# Altium footprint library 贴片元器件.PCBLIB: 208 footprints (part 4 of 13)
Each footprint in its own frame and in the unit in brackets; x right, y up, seen from the top. Pads: shape width x height; smd on the part's side, far side on the other; paste and mask are expansions set on the pad; w line width, h text height; cw(c..) or ccw(c..) is an arc to the next point about the centre after c.
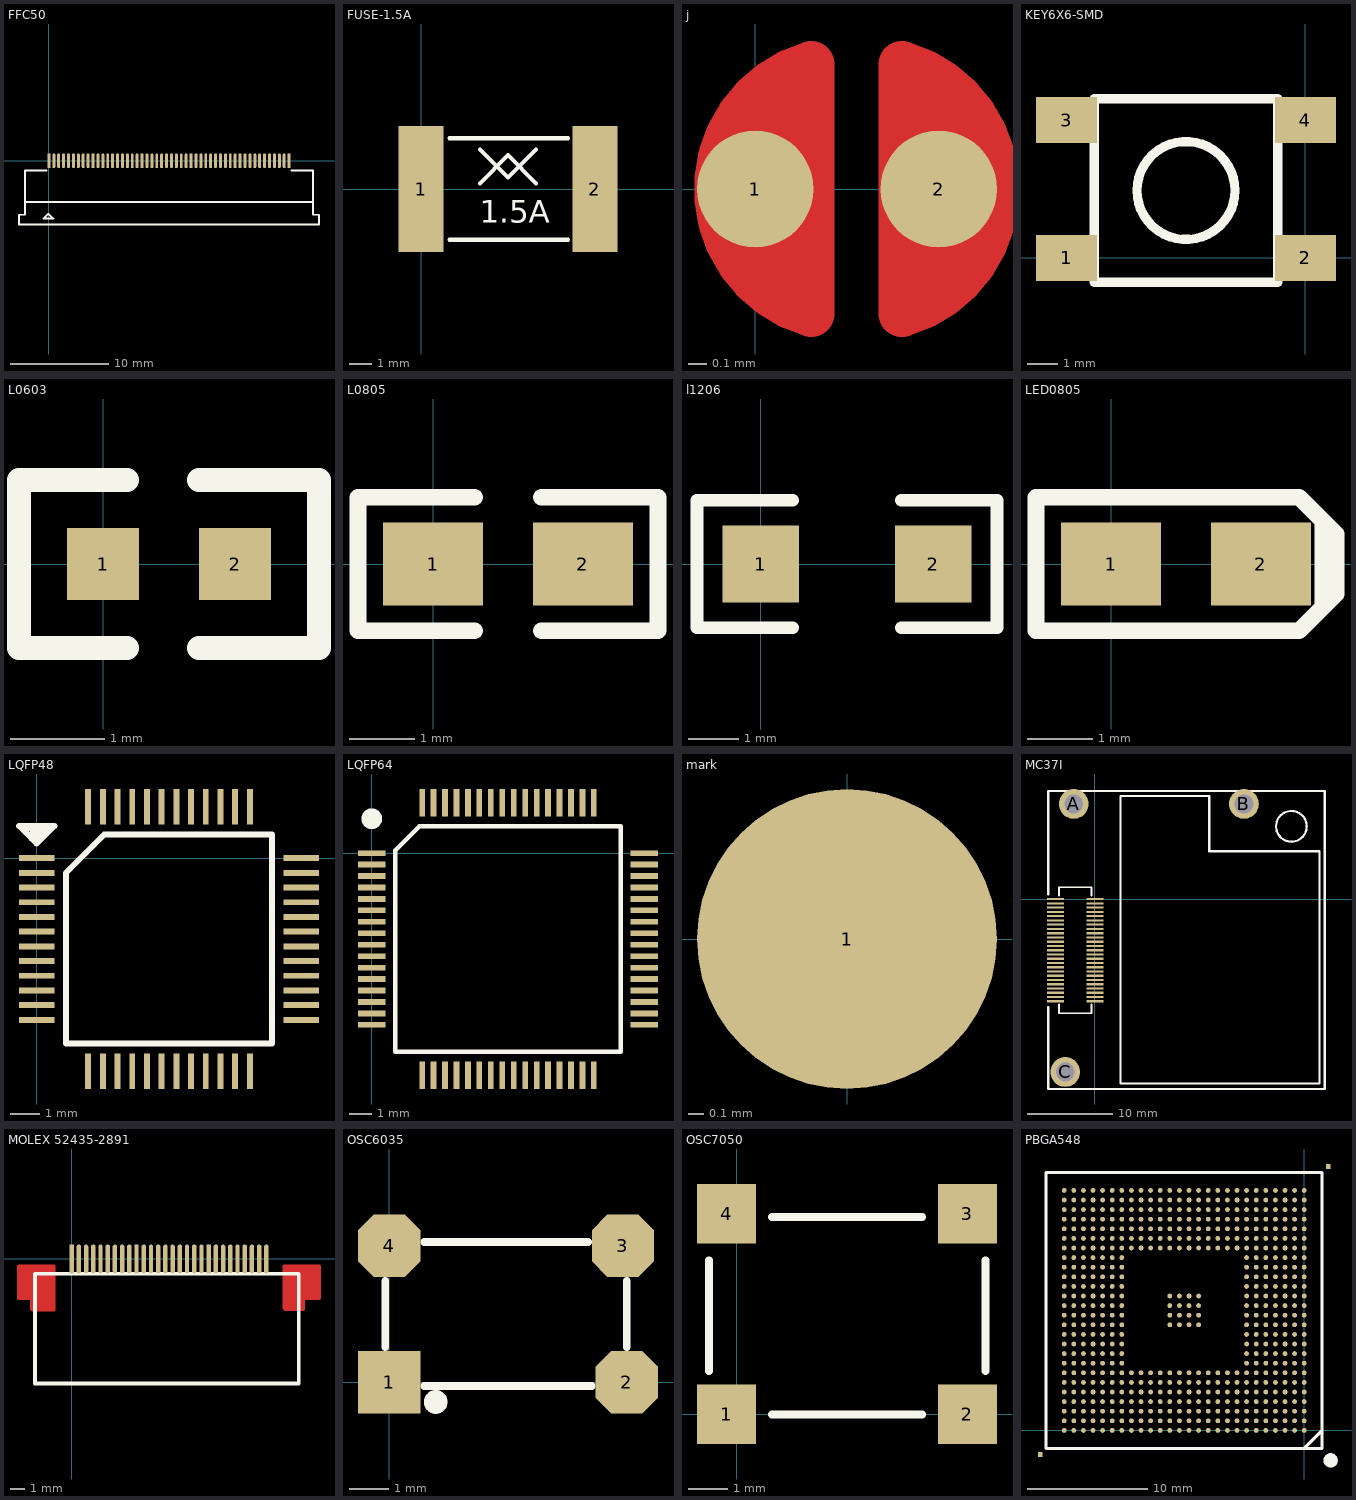
[diagram p3: the footprints below, top view; thin cyan lines are the x and y axes]

## FFC50 [mm]
pads (50):
  rect 0.3x1.5 smd: 1(0,0) 10(4.5,0) 20(9.5,0) 30(14.5,0) 40(19.5,0) 50(24.5,0)
  oval 0.3x1.5 smd: 2(0.5,0) 3(1,0) 4(1.5,0) 5(2,0) 6(2.5,0) 7(3,0) 8(3.5,0) 9(4,0) 11(5,0) 12(5.5,0) 13(6,0) 14(6.5,0) 15(7,0) 16(7.5,0) 17(8,0) 18(8.5,0) 19(9,0) 21(10,0) 22(10.5,0) 23(11,0) 24(11.5,0) 25(12,0) 26(12.5,0) 27(13,0) 28(13.5,0) 29(14,0) 31(15,0) 32(15.5,0) 33(16,0) 34(16.5,0) 35(17,0) 36(17.5,0) 37(18,0) 38(18.5,0) 39(19,0) 41(20,0) 42(20.5,0) 43(21,0) 44(21.5,0) 45(22,0) 46(22.5,0) 47(23,0) 48(23.5,0) 49(24,0)
TopOverlay:
  lines w0.2: -2.45,-4.2 26.95,-4.2 ; -0.25,-1 -2.45,-1 -2.45,-5.5 -3.05,-5.5 -3.05,-6.5 27.55,-6.5 27.55,-5.5 26.95,-5.5 26.95,-1 24.75,-1 ; -0.55,-5.9 0.45,-5.9 -0.05,-5.4 -0.55,-5.9

## FUSE-1.5A [mm]
pads (2):
  rect 2x5.6 smd: 1(0,0) 2(7.7,0)
TopOverlay:
  lines w0.178: 1.25,-2.25 6.5,-2.25 ; 1.25,2.25 6.5,2.25 ; 2.6,0.25 3.85,1.5 5.1,0.25 ; 2.6,1.75 3.85,0.5 5.1,1.75
  text "1.5A" at 2.6,-1.5 h1

## j [mm]
pads (2):
  round 0.635 smd: 1(0,0) 2(1,0)
TopLayer:
  lines w0.254: 0.268,0.416 ccw(c0.487,-0.034) 0.306,-0.5 ; 0.291,-0.215 cw(c0.5,0) 0.291,0.215 ; 0.8,0.5 cw(c0.619,0.034) 0.837,-0.416 ; 0.815,-0.215 ccw(c0.606,0) 0.815,0.215 ; 0.306,-0.68 cw(c0.5,0) 0.306,0.68 0.306,-0.68 ; 0.8,-0.68 ccw(c0.606,0) 0.8,0.68 0.8,-0.68

## KEY6X6-SMD [mm]
pads (4):
  rect 2x1.5 smd: 1(-7.8,0) 2(0,0) 3(-7.8,4.5) 4(0,4.5)
TopOverlay:
  circle w0.305: c-3.9,2.2 r1.6
  lines w0.305: -6.9,-0.8 -0.9,-0.8 -0.9,5.2 -6.9,5.2 -6.9,-0.8

## L0603 [mil]
pads (2):
  rect 30x30 smd: 1(0,0) 2(55,0)
TopOverlay:
  lines w10: 10,-35 -35,-35 -35,35 10,35 ; 40,-35 90,-35 90,35 40,35

## L0805 [mil]
pads (2):
  rect 60x50 smd: 1(0,0) 2(90,0)
TopOverlay:
  lines w10: 25,-40 -45,-40 -45,40 25,40 ; 65,-40 135,-40 135,40 65,40

## l1206 [mil]
pads (2):
  rect 60x60 smd: 1(0,0) 2(135,0)
TopOverlay:
  lines w10: 25,-50 -50,-50 -50,50 25,50 ; 110,-50 185,-50 185,50 110,50

## LED0805 [mil]
pads (2):
  rect 60x50 smd: 1(0,0) 2(90,0)
TopOverlay:
  lines w10: 127.1,-25.9 127.1,25.9 ; -45,-40 113,-40 135,-18 135,18 113,40 -45,40 -45,-40

## LQFP48 [mm]
pads (48):
  rect 1.2x0.2 smd: 1(0,0) 2(0,-0.5) 3(0,-1) 4(0,-1.5) 5(0,-2) 6(0,-2.5) 7(0,-3) 8(0,-3.5) 9(0,-4) 10(0,-4.5) 11(0,-5) 12(0,-5.5) 25(9,-5.5) 26(9,-5) 27(9,-4.5) 28(9,-4) 29(9,-3.5) 30(9,-3) 31(9,-2.5) 32(9,-2) 33(9,-1.5) 34(9,-1) 35(9,-0.5) 36(9,0)
  rect 0.2x1.2 smd: 13(1.75,-7.25) 14(2.25,-7.25) 15(2.75,-7.25) 16(3.25,-7.25) 17(3.75,-7.25) 18(4.25,-7.25) 19(4.75,-7.25) 20(5.25,-7.25) 21(5.75,-7.25) 22(6.25,-7.25) 23(6.75,-7.25) 24(7.25,-7.25) 37(7.25,1.75) 38(6.75,1.75) 39(6.25,1.75) 40(5.75,1.75) 41(5.25,1.75) 42(4.75,1.75) 43(4.25,1.75) 44(3.75,1.75) 45(3.25,1.75) 46(2.75,1.75) 47(2.25,1.75) 48(1.75,1.75)
TopOverlay:
  lines w0.2: 1,-6.3 8,-6.3 8,0.8 2.3,0.8 1,-0.5 1,-6.3
  lines w0.203: -0.4,1 0.5,1 ; -0.199,0.799 0.299,0.799 ; -0.171,0.671 0.171,0.671 ; -0.6,1.1 0,0.5 0.6,1.1 -0.6,1.1

## LQFP64 [mm]
pads (64):
  rect 1.2x0.25 smd: 1(0,0) 2(0,-0.5) 3(0,-1) 4(0,-1.5) 5(0,-2) 6(0,-2.5) 7(0,-3) 8(0,-3.5) 9(0,-4) 10(0,-4.5) 11(0,-5) 12(0,-5.5) 13(0,-6) 14(0,-6.5) 15(0,-7) 16(0,-7.5) 33(11.9,-7.5) 34(11.9,-7) 35(11.9,-6.5) 36(11.9,-6) 37(11.9,-5.5) 38(11.9,-5) 39(11.9,-4.5) 40(11.9,-4) 41(11.9,-3.5) 42(11.9,-3) 43(11.9,-2.5) 44(11.9,-2) 45(11.9,-1.5) 46(11.9,-1) 47(11.9,-0.5) 48(11.9,0)
  rect 0.25x1.2 smd: 17(2.2,-9.7) 18(2.7,-9.7) 19(3.2,-9.7) 20(3.7,-9.7) 21(4.2,-9.7) 22(4.7,-9.7) 23(5.2,-9.7) 24(5.7,-9.7) 25(6.2,-9.7) 26(6.7,-9.7) 27(7.2,-9.7) 28(7.7,-9.7) 29(8.2,-9.7) 30(8.7,-9.7) 31(9.2,-9.7) 32(9.7,-9.7) 49(9.7,2.2) 50(9.2,2.2) 51(8.7,2.2) 52(8.2,2.2) 53(7.7,2.2) 54(7.2,2.2) 55(6.7,2.2) 56(6.2,2.2) 57(5.7,2.2) 58(5.2,2.2) 59(4.7,2.2) 60(4.2,2.2) 61(3.7,2.2) 62(3.2,2.2) 63(2.7,2.2) 64(2.2,2.2)
TopOverlay:
  circle w0.5: c0,1.5 r0.2
  lines w0.2: 1.035,-8.665 1.035,0.13 2.07,1.165 10.865,1.165 10.865,-8.665 1.035,-8.665

## mark [mm]
pads (1):
  round 2 all layers, no hole: 1(0,0)

## MC37I [mm]
pads (54):
  rect 2x0.254 smd: 1(0,0) 2(0,-0.5) 3(0,-1) 4(0,-1.5) 5(0,-2) 6(0,-2.5) 7(0,-3) 8(0,-3.5) 9(0,-4) 10(0,-4.5) 11(0,-5) 12(0,-5.5) 13(0,-6) 14(0,-6.5) 15(0,-7) 16(0,-7.5) 17(0,-8) 18(0,-8.5) 19(0,-9) 20(0,-9.5) 21(0,-10) 22(0,-10.5) 23(0,-11) 24(0,-11.5) 25(0,-12) 26(-4.6,-12) 26(-4.6,-12) 27(-4.6,-11.5) 28(-4.6,-11) 29(-4.6,-10.5) 30(-4.6,-10) 31(-4.6,-9.5) 32(-4.6,-9) 33(-4.6,-8.5) 34(-4.6,-8) 35(-4.6,-7.5) 36(-4.6,-7) 37(-4.6,-6.5) 38(-4.6,-6) 39(-4.6,-5.5) 40(-4.6,-5) 41(-4.6,-4.5) 42(-4.6,-4) 43(-4.6,-3.5) 44(-4.6,-3) 45(-4.6,-2.5) 46(-4.6,-2) 47(-4.6,-1.5) 48(-4.6,-1) 49(-4.6,-0.5) 50(-4.6,0)
  round 3.5 hole 2.2: A(-2.479,11.19) B(17.521,11.19) C(-3.479,-20.31)
TopOverlay:
  circle w0.254: c23.096,8.551 r1.805
  lines w0.2: -4.2,-12.381 -4.2,-13.4 -0.4,-13.4 -0.4,-12.381 ; -4.2,0.381 -4.2,1.4 -0.4,1.4 -0.4,0.381
  lines w0.254: -5.479,-12.658 -5.479,-22.31 27.021,-22.31 27.021,12.69 -5.479,12.69 -5.479,0.55 ; 3.03,-21.675 3.03,12.107 13.444,12.107 13.444,5.63 26.398,5.63 26.398,-21.675 3.03,-21.675

## MOLEX 52435-2891 [mm]
pads (28):
  rect 0.305x2 smd: 1(0,0) 10(4.5,0) 20(9.5,0)
  oval 0.305x2 smd: 2(0.5,0) 3(1,0) 4(1.5,0) 5(2,0) 6(2.5,0) 7(3,0) 8(3.5,0) 9(4,0) 11(5,0) 12(5.5,0) 13(6,0) 14(6.5,0) 15(7,0) 16(7.5,0) 17(8,0) 18(8.5,0) 19(9,0) 21(10,0) 22(10.5,0) 23(11,0) 24(11.5,0) 25(12,0) 26(12.5,0) 27(13,0) 28(13.5,0)
TopLayer:
  rectangle: 14.732,-3.466 16.05,-2.716
  rectangle: 14.732,-2.716 17.15,-1.524
  rectangle: 14.75,-1.524 17.15,-0.508
  rectangle: -2.75,-3.466 -1.25,-2.54
  rectangle: -3.65,-2.716 -2.75,-2.54
  rectangle: -3.65,-2.54 -1.524,-2.54
  rectangle: -1.524,-2.54 -1.25,-0.508
  rectangle: -3.65,-2.54 -1.524,-0.508
  rectangle: -3.65,-0.508 -1.25,-0.508
  rectangle: -2.75,-3.511 -1.25,-3.466
  rectangle: -3.048,-2.716 -2.75,-2.716
  rectangle: -3.65,-2.716 -3.65,-0.508
  lines w0.254: -2.75,-3.466 -2.75,-2.716 -3.65,-2.716 -3.65,-0.508 -1.25,-0.508 -1.25,-3.511 -2.705,-3.511 ; 14.75,-3.394 14.822,-3.466 15.33,-3.466 16.05,-3.466 16.05,-2.716 17.15,-2.716 17.15,-0.508 14.75,-0.508 14.75,-3.394
TopOverlay:
  lines w0.254: -2.54,-8.636 15.748,-8.636 15.748,-1.016 -2.032,-1.016 -2.54,-1.016 -2.54,-8.636

## OSC6035 [mm]
pads (4):
  rect 1.6x1.6 smd: 1(0,0)
  oct 1.6x1.6 smd: 2(6.1,0) 3(6,3.5) 4(0,3.5)
TopOverlay:
  circle w0.305: c1.194,-0.508 r0.152
  lines w0.2: -0.1,0.9 -0.1,2.6 ; 0.9,-0.1 5.2,-0.1 ; 0.9,3.6 5.1,3.6 ; 6.1,0.9 6.1,2.6

## OSC7050 [mm]
pads (4):
  rect 1.5x1.5 smd: 1(-0.254,0) 2(5.842,0) 3(5.842,5.08) 4(-0.254,5.08)
TopOverlay:
  lines w0.2: -0.7,1.1 -0.7,3.9 ; 0.9,0 4.7,0 ; 0.9,5 4.7,5 ; 6.3,1.1 6.3,3.9

## PBGA548 [mm]
pads (550):
  rect 0.4x0.4 smd: 1(2,22) 2(-22,-2)
  round 0.4 smd: A1(0,0) A2(-0.8,0) A3(-1.6,0) A4(-2.4,0) A5(-3.2,0) A6(-4,0) A7(-4.8,0) A8(-5.6,0) A9(-6.4,0) A10(-7.2,0) A11(-8,0) A12(-8.8,0) A13(-9.6,0) A14(-10.4,0) A15(-11.2,0) A16(-12,0) A17(-12.8,0) A18(-13.6,0) A19(-14.4,0) A20(-15.2,0) A21(-16,0) A22(-16.8,0) A23(-17.6,0) A24(-18.4,0) A25(-19.2,0) A26(-20,0) AA1(0,16) AA2(-0.8,16) AA3(-1.6,16) AA4(-2.4,16) AA5(-3.2,16) AA6(-4,16) AA7(-4.8,16) AA8(-5.6,16) AA9(-6.4,16) AA10(-7.2,16) AA11(-8,16) AA12(-8.8,16) AA13(-9.6,16) AA14(-10.4,16) AA15(-11.2,16) AA16(-12,16) AA17(-12.8,16) AA18(-13.6,16) AA19(-14.4,16) AA20(-15.2,16) AA21(-16,16) AA22(-16.8,16) AA23(-17.6,16) AA24(-18.4,16) AA25(-19.2,16) AA26(-20,16) AB1(0,16.8) AB2(-0.8,16.8) AB3(-1.6,16.8) AB4(-2.4,16.8) AB5(-3.2,16.8) AB6(-4,16.8) AB7(-4.8,16.8) AB8(-5.6,16.8) AB9(-6.4,16.8) AB10(-7.2,16.8) AB11(-8,16.8) AB12(-8.8,16.8) AB13(-9.6,16.8) AB14(-10.4,16.8) AB15(-11.2,16.8) AB16(-12,16.8) AB17(-12.8,16.8) AB18(-13.6,16.8) AB19(-14.4,16.8) AB20(-15.2,16.8) AB21(-16,16.8) AB22(-16.8,16.8) AB23(-17.6,16.8) AB24(-18.4,16.8) AB25(-19.2,16.8) AB26(-20,16.8) AC1(0,17.6) AC2(-0.8,17.6) AC3(-1.6,17.6) AC4(-2.4,17.6) AC5(-3.2,17.6) AC6(-4,17.6) AC7(-4.8,17.6) AC8(-5.6,17.6) AC9(-6.4,17.6) AC10(-7.2,17.6) AC11(-8,17.6) AC12(-8.8,17.6) AC13(-9.6,17.6) AC14(-10.4,17.6) AC15(-11.2,17.6) AC16(-12,17.6) AC17(-12.8,17.6) AC18(-13.6,17.6) AC19(-14.4,17.6) AC20(-15.2,17.6) AC21(-16,17.6) AC22(-16.8,17.6) AC23(-17.6,17.6) AC24(-18.4,17.6) AC25(-19.2,17.6) AC26(-20,17.6) AD1(0,18.4) AD2(-0.8,18.4) AD3(-1.6,18.4) AD4(-2.4,18.4) AD5(-3.2,18.4) AD6(-4,18.4) AD7(-4.8,18.4) AD8(-5.6,18.4) AD9(-6.4,18.4) AD10(-7.2,18.4) AD11(-8,18.4) AD12(-8.8,18.4) AD13(-9.6,18.4) AD14(-10.4,18.4) AD15(-11.2,18.4) AD16(-12,18.4) AD17(-12.8,18.4) AD18(-13.6,18.4) AD19(-14.4,18.4) AD20(-15.2,18.4) AD21(-16,18.4) AD22(-16.8,18.4) AD23(-17.6,18.4) AD24(-18.4,18.4) AD25(-19.2,18.4) AD26(-20,18.4) AE1(0,19.2) AE2(-0.8,19.2) AE3(-1.6,19.2) AE4(-2.4,19.2) AE5(-3.2,19.2) AE6(-4,19.2) AE7(-4.8,19.2) AE8(-5.6,19.2) AE9(-6.4,19.2) AE10(-7.2,19.2) AE11(-8,19.2) AE12(-8.8,19.2) AE13(-9.6,19.2) AE14(-10.4,19.2) AE15(-11.2,19.2) AE16(-12,19.2) AE17(-12.8,19.2) AE18(-13.6,19.2) AE19(-14.4,19.2) AE20(-15.2,19.2) AE21(-16,19.2) AE22(-16.8,19.2) AE23(-17.6,19.2) AE24(-18.4,19.2) AE25(-19.2,19.2) AE26(-20,19.2) AF1(0,20) AF2(-0.8,20) AF3(-1.6,20) AF4(-2.4,20) AF5(-3.2,20) AF6(-4,20) AF7(-4.8,20) AF8(-5.6,20) AF9(-6.4,20) AF10(-7.2,20) AF11(-8,20) AF12(-8.8,20) AF13(-9.6,20) AF14(-10.4,20) AF15(-11.2,20) AF16(-12,20) AF17(-12.8,20) AF18(-13.6,20) AF19(-14.4,20) AF20(-15.2,20) AF21(-16,20) AF22(-16.8,20) AF23(-17.6,20) AF24(-18.4,20) AF25(-19.2,20) AF26(-20,20) B1(0,0.8) B2(-0.8,0.8) B3(-1.6,0.8) B4(-2.4,0.8) B5(-3.2,0.8) B6(-4,0.8) B7(-4.8,0.8) B8(-5.6,0.8) B9(-6.4,0.8) B10(-7.2,0.8) B11(-8,0.8) B12(-8.8,0.8) B13(-9.6,0.8) B14(-10.4,0.8) B15(-11.2,0.8) B16(-12,0.8) B17(-12.8,0.8) B18(-13.6,0.8) B19(-14.4,0.8) B20(-15.2,0.8) B21(-16,0.8) B22(-16.8,0.8) B23(-17.6,0.8) B24(-18.4,0.8) B25(-19.2,0.8) B26(-20,0.8) C1(0,1.6) C2(-0.8,1.6) C3(-1.6,1.6) C4(-2.4,1.6) C5(-3.2,1.6) C6(-4,1.6) C7(-4.8,1.6) C8(-5.6,1.6) C9(-6.4,1.6) C10(-7.2,1.6) C11(-8,1.6) C12(-8.8,1.6) C13(-9.6,1.6) C14(-10.4,1.6) C15(-11.2,1.6) C16(-12,1.6) C17(-12.8,1.6) C18(-13.6,1.6) C19(-14.4,1.6) C20(-15.2,1.6) C21(-16,1.6) C22(-16.8,1.6) C23(-17.6,1.6) C24(-18.4,1.6) C25(-19.2,1.6) C26(-20,1.6) D1(0,2.4) D2(-0.8,2.4) D3(-1.6,2.4) D4(-2.4,2.4) D5(-3.2,2.4) D6(-4,2.4) D7(-4.8,2.4) D8(-5.6,2.4) D9(-6.4,2.4) D10(-7.2,2.4) D11(-8,2.4) D12(-8.8,2.4) D13(-9.6,2.4) D14(-10.4,2.4) D15(-11.2,2.4) D16(-12,2.4) D17(-12.8,2.4) D18(-13.6,2.4) D19(-14.4,2.4) D20(-15.2,2.4) D21(-16,2.4) D22(-16.8,2.4) D23(-17.6,2.4) D24(-18.4,2.4) D25(-19.2,2.4) D26(-20,2.4) E1(0,3.2) E2(-0.8,3.2) E3(-1.6,3.2) E4(-2.4,3.2) E5(-3.2,3.2) E6(-4,3.2) E7(-4.8,3.2) E8(-5.6,3.2) E9(-6.4,3.2) E10(-7.2,3.2) E11(-8,3.2) E12(-8.8,3.2) E13(-9.6,3.2) E14(-10.4,3.2) E15(-11.2,3.2) E16(-12,3.2) E17(-12.8,3.2) E18(-13.6,3.2) E19(-14.4,3.2) E20(-15.2,3.2) E21(-16,3.2) E22(-16.8,3.2) E23(-17.6,3.2) E24(-18.4,3.2) E25(-19.2,3.2) E26(-20,3.2) F1(0,4) F2(-0.8,4) F3(-1.6,4) F4(-2.4,4) F5(-3.2,4) F6(-4,4) F7(-4.8,4) F8(-5.6,4) F9(-6.4,4) F10(-7.2,4) F11(-8,4) F12(-8.8,4) F13(-9.6,4) F14(-10.4,4) F15(-11.2,4) F16(-12,4) F17(-12.8,4) F18(-13.6,4) F19(-14.4,4) F20(-15.2,4) F21(-16,4) F22(-16.8,4) F23(-17.6,4) F24(-18.4,4) F25(-19.2,4) F26(-20,4) G1(0,4.8) G2(-0.8,4.8) G3(-1.6,4.8) G4(-2.4,4.8) G5(-3.2,4.8) G6(-4,4.8) G7(-4.8,4.8) G8(-5.6,4.8) G9(-6.4,4.8) G10(-7.2,4.8) G11(-8,4.8) G12(-8.8,4.8) G13(-9.6,4.8) G14(-10.4,4.8) G15(-11.2,4.8) G16(-12,4.8) G17(-12.8,4.8) G18(-13.6,4.8) G19(-14.4,4.8) G20(-15.2,4.8) G21(-16,4.8) G22(-16.8,4.8) G23(-17.6,4.8) G24(-18.4,4.8) G25(-19.2,4.8) G26(-20,4.8) H1(0,5.6) H2(-0.8,5.6) H3(-1.6,5.6) H4(-2.4,5.6) H5(-3.2,5.6) H6(-4,5.6) H7(-4.8,5.6) H20(-15.2,5.6) H21(-16,5.6) H22(-16.8,5.6) H23(-17.6,5.6) H24(-18.4,5.6) H25(-19.2,5.6) H26(-20,5.6) J1(0,6.4) J2(-0.8,6.4) J3(-1.6,6.4) J4(-2.4,6.4) J5(-3.2,6.4) J6(-4,6.4) J7(-4.8,6.4) J20(-15.2,6.4) J21(-16,6.4) J22(-16.8,6.4) J23(-17.6,6.4) J24(-18.4,6.4) J25(-19.2,6.4) J26(-20,6.4) K1(0,7.2) K2(-0.8,7.2) K3(-1.6,7.2) K4(-2.4,7.2) K5(-3.2,7.2) K6(-4,7.2) K7(-4.8,7.2) K20(-15.2,7.2) K21(-16,7.2) K22(-16.8,7.2) K23(-17.6,7.2) K24(-18.4,7.2) K25(-19.2,7.2) K26(-20,7.2) L1(0,8) L2(-0.8,8) L3(-1.6,8) L4(-2.4,8) L5(-3.2,8) L6(-4,8) L7(-4.8,8) L20(-15.2,8) L21(-16,8) L22(-16.8,8) L23(-17.6,8) L24(-18.4,8) L25(-19.2,8) L26(-20,8) M1(0,8.8) M2(-0.8,8.8) M3(-1.6,8.8) M4(-2.4,8.8) M5(-3.2,8.8) M6(-4,8.8) M7(-4.8,8.8) M12(-8.8,8.8) M13(-9.6,8.8) M14(-10.4,8.8) M15(-11.2,8.8) M20(-15.2,8.8) M21(-16,8.8) M22(-16.8,8.8) M23(-17.6,8.8) M24(-18.4,8.8) M25(-19.2,8.8) M26(-20,8.8) N1(0,9.6) N2(-0.8,9.6) N3(-1.6,9.6) N4(-2.4,9.6) N5(-3.2,9.6) N6(-4,9.6) N7(-4.8,9.6) N12(-8.8,9.6) N13(-9.6,9.6) N14(-10.4,9.6) N15(-11.2,9.6) N20(-15.2,9.6) N21(-16,9.6) N22(-16.8,9.6) N23(-17.6,9.6) N24(-18.4,9.6) N25(-19.2,9.6) N26(-20,9.6) P1(0,10.4) P2(-0.8,10.4) P3(-1.6,10.4) P4(-2.4,10.4) P5(-3.2,10.4) P6(-4,10.4) P7(-4.8,10.4) P12(-8.8,10.4) P13(-9.6,10.4) P14(-10.4,10.4) P15(-11.2,10.4) P20(-15.2,10.4) P21(-16,10.4) P22(-16.8,10.4) P23(-17.6,10.4) P24(-18.4,10.4) P25(-19.2,10.4) P26(-20,10.4) R1(0,11.2) R2(-0.8,11.2) R3(-1.6,11.2) R4(-2.4,11.2) R5(-3.2,11.2) R6(-4,11.2) R7(-4.8,11.2) R12(-8.8,11.2) R13(-9.6,11.2) R14(-10.4,11.2) R15(-11.2,11.2) R20(-15.2,11.2) R21(-16,11.2) R22(-16.8,11.2) R23(-17.6,11.2) R24(-18.4,11.2) R25(-19.2,11.2) R26(-20,11.2) T1(0,12) T2(-0.8,12) T3(-1.6,12) T4(-2.4,12) T5(-3.2,12) T6(-4,12) T7(-4.8,12) T20(-15.2,12) T21(-16,12) T22(-16.8,12) T23(-17.6,12) T24(-18.4,12) T25(-19.2,12) T26(-20,12) U1(0,12.8) U2(-0.8,12.8) U3(-1.6,12.8) U4(-2.4,12.8) U5(-3.2,12.8) U6(-4,12.8) U7(-4.8,12.8) U20(-15.2,12.8) U21(-16,12.8) U22(-16.8,12.8) U23(-17.6,12.8) U24(-18.4,12.8) U25(-19.2,12.8) U26(-20,12.8) V1(0,13.6) V2(-0.8,13.6) V3(-1.6,13.6) V4(-2.4,13.6) V5(-3.2,13.6) V6(-4,13.6) V7(-4.8,13.6) V20(-15.2,13.6) V21(-16,13.6) V22(-16.8,13.6) V23(-17.6,13.6) V24(-18.4,13.6) V25(-19.2,13.6) V26(-20,13.6) W1(0,14.4) W2(-0.8,14.4) W3(-1.6,14.4) W4(-2.4,14.4) W5(-3.2,14.4) W6(-4,14.4) W7(-4.8,14.4) W20(-15.2,14.4) W21(-16,14.4) W22(-16.8,14.4) W23(-17.6,14.4) W24(-18.4,14.4) W25(-19.2,14.4) W26(-20,14.4) Y1(0,15.2) Y2(-0.8,15.2) Y3(-1.6,15.2) Y4(-2.4,15.2) Y5(-3.2,15.2) Y6(-4,15.2) Y7(-4.8,15.2) Y8(-5.6,15.2) Y9(-6.4,15.2) Y10(-7.2,15.2) Y11(-8,15.2) Y12(-8.8,15.2) Y13(-9.6,15.2) Y14(-10.4,15.2) Y15(-11.2,15.2) Y16(-12,15.2) Y17(-12.8,15.2) Y18(-13.6,15.2) Y19(-14.4,15.2) Y20(-15.2,15.2) Y21(-16,15.2) Y22(-16.8,15.2) Y23(-17.6,15.2) Y24(-18.4,15.2) Y25(-19.2,15.2) Y26(-20,15.2)
TopOverlay:
  circle w0.6: c2.2,-2.5 r0.3
  lines w0.254: 0,-1.5 1.5,0 ; -21.5,-1.5 1.5,-1.5 1.5,21.5 -21.5,21.5 -21.5,-1.5